# Altium schematic symbol library SerDes_Eval.SCHLIB: 29 symbols
Pins are listed as number, name and electrical type; pins without a type are passive.

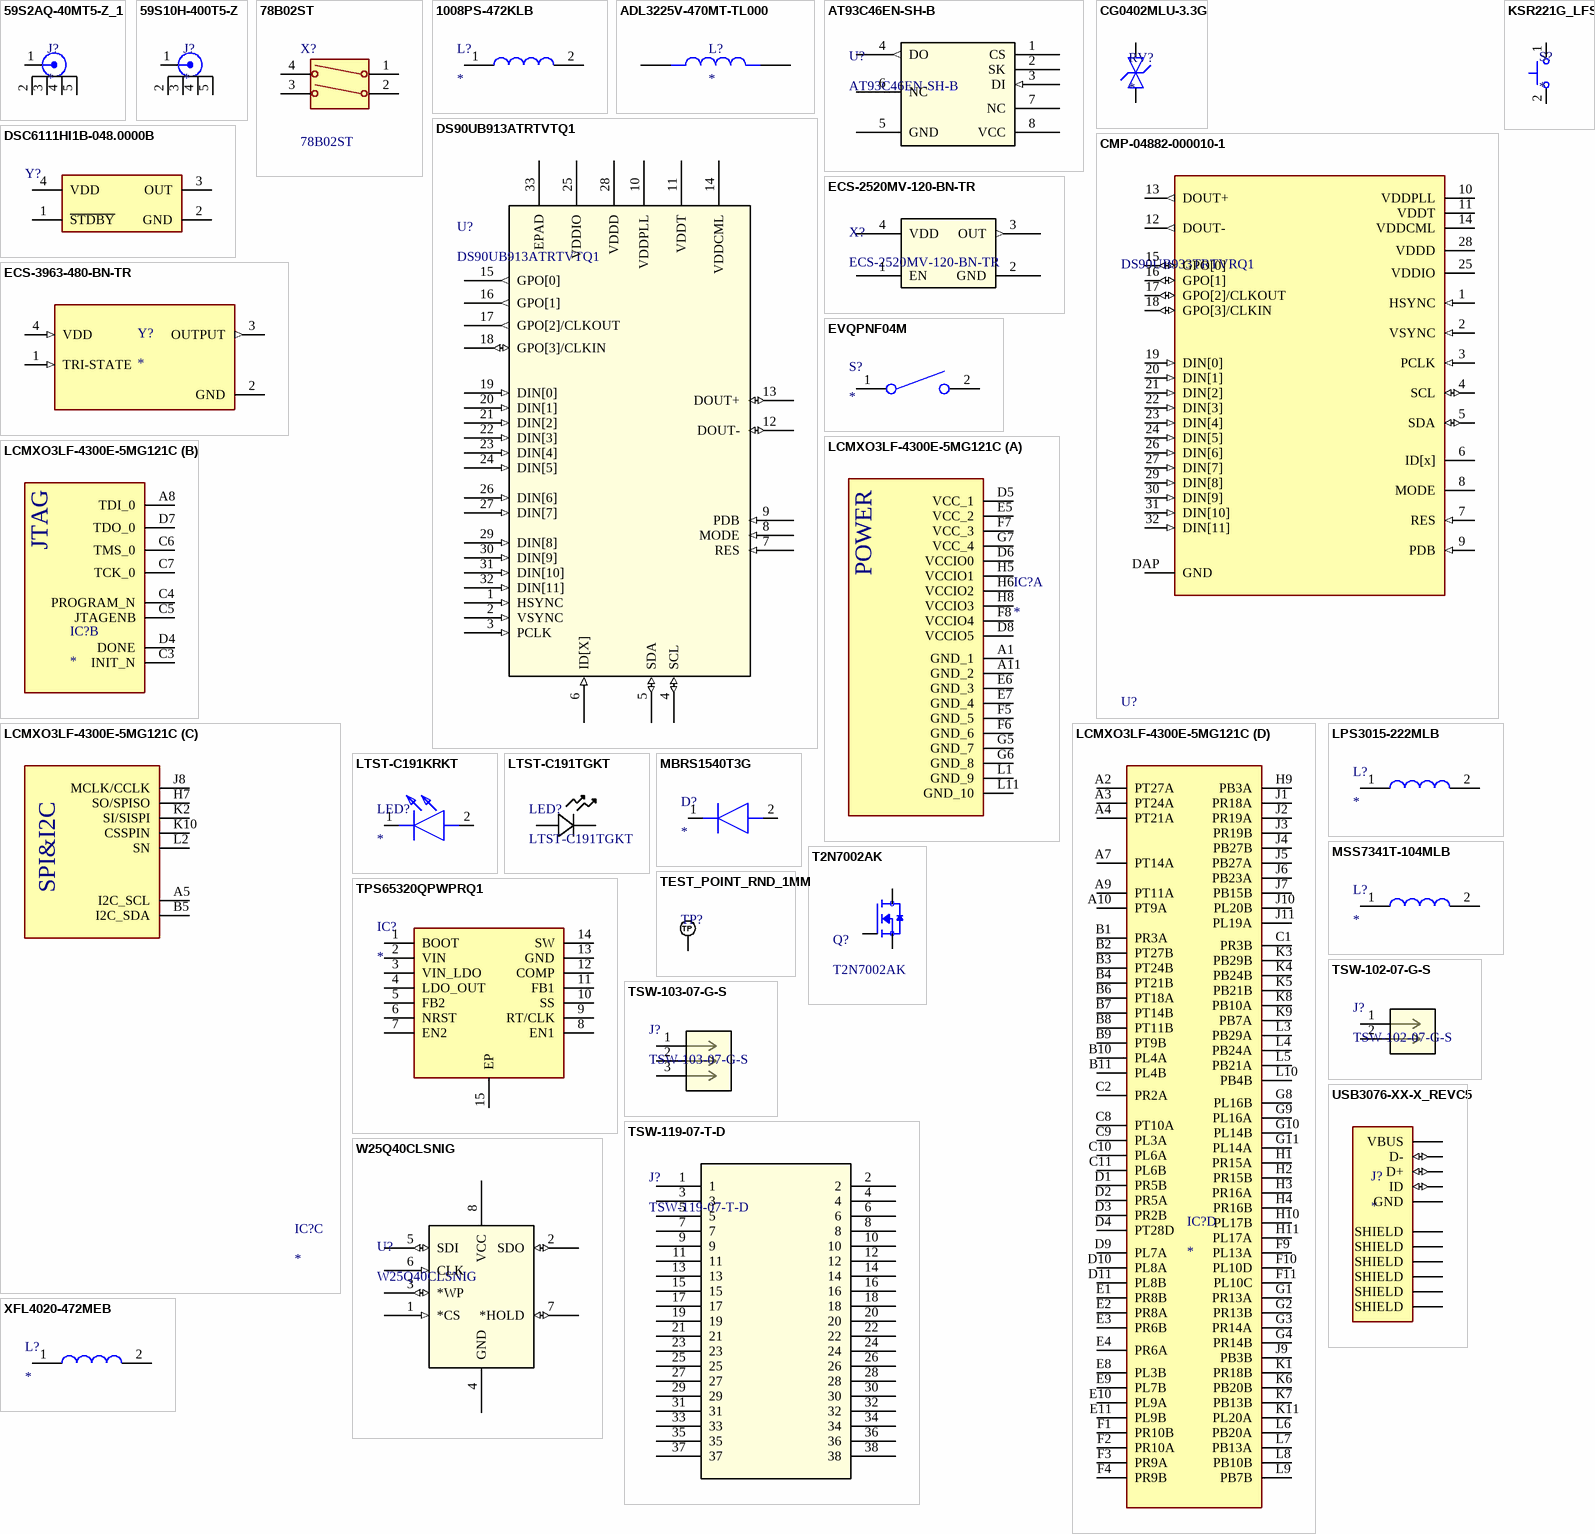
[diagram p0: symbols 59S2AQ-40MT5-Z_1 to XFL4020-472MEB]

## 59S2AQ-40MT5-Z_1
designator J?
RF Connectors / Coaxial Connectors Plug PC-Board SMD Right AngleZWatrBlue; MP: 59S2AQ-40MT5-Z_1; Package: None; Price: None; Value: *; Availability: Unavailable
footprint ROSENBERGER_59S2AQ-40MT5-Z_1
pins: 1, 2, 3, 4, 5

## 59S10H-400T5-Z
designator J?
Connector; Manufacturer_Name: Rosenberger; Manufacturer_Part_Number: 59S10H-400T5-Z; Datasheet Link: https://products.rosenberger.com/radio-frequency/connectors/190827/59s10h-400t5-z-straight-plug-pcb-w.-housing#; Height: 12.45mm; Mouser Part Number: 476-59S10H-400T5-Z; Mouser Price/Stock: https://www.mouser.co.uk/ProductDetail/Rosenberger/59S10H-400T5-Z?qs=ehM%252BESVsXgwk%252Bgn9X1DFpA%3D%3D
footprint 59S10H400T5Z
pins: 1, 2, 3, 4, 5

## 78B02ST
designator X?
PCB Slide Switch Single Pole Single Throw (SPST) 150 mA Slide; Manufacturer_Name: Grayhill; Geometry.Height: 7.49mm; Mouser Part Number: 706-78B02ST; Mouser Price/Stock: https://www.mouser.co.uk/ProductDetail/Grayhill/78B02ST?qs=ls7QRyWmRk63wsT9ZvgLUg%3D%3D; Manufacturer_Part_Number: 78B02ST; Datasheet Link: https://datasheet.datasheetarchive.com/originals/distributors/SFDatasheet-7/sf-000148477.pdf
footprint 78B02ST
pins: 1 COM_1, 2 NO_1, 3 COM_2, 4 NO_2

## 1008PS-472KLB
designator L?
Inductor; Manufacturer_Name: COILCRAFT; Manufacturer_Part_Number: 1008PS-472KLB; Datasheet Link: https://www.coilcraft.com/pdfs/1008ps.pdf; Mouser Part Number: 994-1008PS-472KLB; Mouser Price/Stock: https://www.mouser.co.uk/ProductDetail/Coilcraft/1008PS-472KLB?qs=zCSbvcPd3pZjtFGTYwqcAw%3D%3D
footprint 1008PS
pins: 1, 2

## ADL3225V-470MT-TL000
designator L?
MP: ADL3225V-470MT-TL000; MF: {'manufacturer': u'TDK'}; Value: *; Availability: Unavailable; Price: None; Package: None
footprint IND_ADL3225V-470MT-TL000
pins: 1, 2

## AT93C46EN-SH-B
designator U?
No Description Available; Manufacturer_Name: Microchip; Copyright: Copyright (C) 2025 Ultra Librarian. All rights reserved.; Manufacturer_Part_Number: AT93C46EN-SH-B; RefDes: RefDes; Type: Type
footprint 8S1_ATM
pins: 1 CS, 2 SK, 3 DI (in), 4 DO (out), 5 GND (power), 6 NC, 7 NC, 8 VCC (power)

## CG0402MLU-3.3G
designator RV?
Varistor; Manufacturer_Name: Bourns; Manufacturer_Part_Number: CG0402MLU-3.3G; Datasheet Link: https://www.bourns.com/docs/Product-Datasheets/MLU.pdf; Height: 0.41mm; Mouser Part Number: 652-CG0402MLU-3.3G; Mouser Price/Stock: https://www.mouser.co.uk/ProductDetail/Bourns/CG0402MLU-3.3G?qs=m8myXnDJXpWVM8EQWErxtQ%3D%3D; Arrow Part Number: CG0402MLU-3.3G; Arrow Price/Stock: https://www.arrow.com/en/products/cg0402mlu-3.3g/bourns?utm_currency=USD&region=nac
footprint VARC1005X41N
pins: A, K

## CMP-04882-000010-1
designator U?, comment DS90UB933TRTVRQ1
IC SERIALIZER FPD-LINK 32WQFN; Number of Inputs: 12; Number of Outputs: 2; RoHS Compliant: Yes; Min Operating Temperature: -40°C; Mount: Surface Mount; Packaging: Tape and Reel; Max Operating Temperature: 105°C
footprint FP-RTV0032A-IPC_A
footprint FP-RTV0032A-IPC_B
footprint FP-RTV0032A-IPC_C
footprint FP-RTV0032A-MFG
pins: 1 HSYNC (in), 2 VSYNC (in), 3 PCLK (in), 4 SCL (io), 5 SDA (io), 6 ID[x], 7 RES (in), 8 MODE, 9 PDB (in), 10 VDDPLL (power), 11 VDDT (power), 12 DOUT- (out), 13 DOUT+ (out), 14 VDDCML (power), 15 GPO[0] (io), 16 GPO[1] (io), 17 GPO[2]/CLKOUT (io), 18 GPO[3]/CLKIN (io), 19 DIN[0] (in), 20 DIN[1] (in), 21 DIN[2] (in), 22 DIN[3] (in), 23 DIN[4] (in), 24 DIN[5] (in), 25 VDDIO (power), 26 DIN[6] (in), 27 DIN[7] (in), 28 VDDD (power), 29 DIN[8] (in), 30 DIN[9] (in), 31 DIN[10] (in), 32 DIN[11] (in), DAP GND (power)

## DS90UB913ATRTVTQ1
designator U?
25- to 100-MHz, 10-bit & 12-bit FPD-Link III serializer 32-WQFN -40 to 105; Manufacturer_Name: Texas Instruments; Copyright: Copyright (C) 2025 Ultra Librarian. All rights reserved.; Manufacturer_Part_Number: DS90UB913ATRTVTQ1; RefDes: RefDes; Type: Type
footprint RTV32_3P1X3P1_TEX-L
pins: 1 HSYNC (in), 2 VSYNC (in), 3 PCLK (in), 4 SCL (io), 5 SDA (io), 6 ID[X] (in), 7 RES (in), 8 MODE (in), 9 PDB (in), 10 VDDPLL (power), 11 VDDT (power), 12 DOUT- (io), 13 DOUT+ (io), 14 VDDCML (power), 15 GPO[0] (out), 16 GPO[1] (out), 17 GPO[2]/CLKOUT (out), 18 GPO[3]/CLKIN (io), 19 DIN[0] (in), 20 DIN[1] (in), 21 DIN[2] (in), 22 DIN[3] (in), 23 DIN[4] (in), 24 DIN[5] (in), 25 VDDIO (power), 26 DIN[6] (in), 27 DIN[7] (in), 28 VDDD (power), 29 DIN[8] (in), 30 DIN[9] (in), 31 DIN[10] (in), 32 DIN[11] (in), 33 EPAD

## DSC6111HI1B-048.0000B
designator Y?
Crystal or Oscillator; Manufacturer_Name: Microchip; Manufacturer_Part_Number: DSC6111HI1B-048.0000B; Datasheet Link: https://ww1.microchip.com/downloads/aemDocuments/documents/TCG/ProductDocuments/DataSheets/DSC61xxB-Ultra-Small-Ultra-Low-Power-MEMS-Oscillator-DS20006155.pdf; Height: 0.89mm
footprint DSC6111HI1B0480000B
pins: 1 ~{STDBY}, 2 GND, 3 OUT, 4 VDD

## ECS-2520MV-120-BN-TR
designator X?
Description; Manufacturer_Name: ECS International; Copyright: Copyright (C) 2025 Ultra Librarian. All rights reserved.; Manufacturer_Part_Number: ECS-2520MV-120-BN-TR; RefDes: RefDes; Type: Type
footprint SMD4_ECS-2520MV_ECS
pins: 1 EN, 2 GND (power), 3 OUT (out), 4 VDD (power)

## ECS-3963-480-BN-TR
designator Y?
miniature SMD crystal controlled oscillators; MP: ECS-3963-480-BN-TR; Package: None; Price: None; Value: *; Availability: Unavailable
footprint OSC_ECS-3963-480-BN-TR
pins: 1 TRI-STATE (in), 2 GND (power), 3 OUTPUT (out), 4 VDD (in)

## EVQPNF04M
designator S?
Switch; Manufacturer_Name: Panasonic; Manufacturer_Part_Number: EVQPNF04M; Datasheet Link: https://industrial.panasonic.com/cdbs/www-data/pdf/ATK0000/ATK0000C376.pdf
footprint EVQ5PN05K
pins: 1 COM, 2 NO

## KSR221G_LFS
designator S?
Switch; Manufacturer_Name: C & K COMPONENTS; Manufacturer_Part_Number: KSR221G LFS; Datasheet Link: http://www.ckswitches.com/media/1466/ksr.pdf; Mouser Part Number: 611-KSR221G-LFS; Mouser Price/Stock: https://www.mouser.co.uk/ProductDetail/CK/KSR221G-LFS?qs=nrpkpS80q8EnsbmSijdd7Q%3D%3D; Arrow Part Number: KSR221G LFS; Arrow Price/Stock: https://www.arrow.com/en/products/ksr221glfs/ck?utm_currency=USD&region=europe
footprint KSR
pins: 1, 2

## LCMXO3LF-4300E-5MG121C
designator IC?
FPGA IC; Manufacturer_Name: Lattice Semiconductor; Manufacturer_Part_Number: LCMXO3LF-4300E-5MG121C; Datasheet Link: https://www.latticesemi.com/MachXO3; Height: 1mm; Mouser Part Number: 842-O3LF4300E5MG121C; Mouser Price/Stock: https://www.mouser.co.uk/ProductDetail/Lattice/LCMXO3LF-4300E-5MG121C?qs=Zwj7mHVHPHTjqjc5ga7IUA%3D%3D; Arrow Part Number: LCMXO3LF-4300E-5MG121C; Arrow Price/Stock: https://www.arrow.com/en/products/lcmxo3lf-4300e-5mg121c/lattice-semiconductor?region=nac
footprint CSFBGA-121_L6.0-W6.0-R11-C11-P0.50-TL
part A pins: A1 GND_1, A11 GND_2, D5 VCC_1, D6 VCCIO0, D8 VCCIO5, E5 VCC_2, E6 GND_3, E7 GND_4, F5 GND_5, F6 GND_6, F7 VCC_3, F8 VCCIO4, G5 GND_7, G6 GND_8, G7 VCC_4, H5 VCCIO1, H6 VCCIO2, H8 VCCIO3, L1 GND_9, L11 GND_10
part B pins: A8 TDI_0, C3 INIT_N, C4 PROGRAM_N, C5 JTAGENB, C6 TMS_0, C7 TCK_0, D4 DONE, D7 TDO_0
part C pins: A5 I2C_SCL, B5 I2C_SDA, H7 SO/SPISO, J8 MCLK/CCLK, K2 SI/SISPI, K10 CSSPIN, L2 SN
part D pins: A2 PT27A, A3 PT24A, A4 PT21A, A7 PT14A, A9 PT11A, A10 PT9A, B1 PR3A, B2 PT27B, B3 PT24B, B4 PT21B, B6 PT18A, B7 PT14B, B8 PT11B, B9 PT9B, B10 PL4A, B11 PL4B, C1 PR3B, C2 PR2A, C8 PT10A, C9 PL3A, C10 PL6A, C11 PL6B, D1 PR5B, D2 PR5A, D3 PR2B, D4 PT28D, D9 PL7A, D10 PL8A, D11 PL8B, E1 PR8B, E2 PR8A, E3 PR6B, E4 PR6A, E8 PL3B, E9 PL7B, E10 PL9A, E11 PL9B, F1 PR10B, F2 PR10A, F3 PR9A, F4 PR9B, F9 PL13A, F10 PL10D, F11 PL10C, G1 PR13A, G2 PR13B, G3 PR14A, G4 PR14B, G8 PL16B, G9 PL16A, G10 PL14B, G11 PL14A, H1 PR15A, H2 PR15B, H3 PR16A, H4 PR16B, H9 PB3A, H10 PL17B, H11 PL17A, J1 PR18A, J2 PR19A, J3 PR19B, J4 PB27B, J5 PB27A, J6 PB23A, J7 PB15B, J9 PB3B, J10 PL20B, J11 PL19A, K1 PR18B, K3 PB29B, K4 PB24B, K5 PB21B, K6 PB20B, K7 PB13B, K8 PB10A, K9 PB7A, K11 PL20A, L3 PB29A, L4 PB24A, L5 PB21A, L6 PB20A, L7 PB13A, L8 PB10B, L9 PB7B, L10 PB4B
part A text: POWER
part B text: JTAG
part C text: SPI&I2C

## LPS3015-222MLB
designator L?
Inductor; Manufacturer_Name: COILCRAFT; Manufacturer_Part_Number: LPS3015-222MLB; Datasheet Link: https://www.mouser.de/datasheet/2/597/lps3015-270734.pdf; Mouser Part Number: 994-LPS3015-222MLB; Mouser Price/Stock: https://www.mouser.co.uk/ProductDetail/Coilcraft/LPS3015-222MLB?qs=zCSbvcPd3pZ6eDikEPAG6g%3D%3D
footprint LPS3015
pins: 1, 2

## LTST-C191KRKT
designator LED?
LED; Manufacturer_Name: Lite-On; Manufacturer_Part_Number: LTST-C191KRKT; Datasheet Link: http://www.mouser.com/ds/2/239/S_110_LTST-C191KRKT-539838.pdf; Height: 0.55mm; Mouser Part Number: 859-LTST-C191KRKT; Mouser Price/Stock: https://www.mouser.co.uk/ProductDetail/LITEON/LTST-C191KRKT?qs=BAIUz4Y8PJBLfOhzue0q%252BA%3D%3D; Arrow Part Number: LTST-C191KRKT; Arrow Price/Stock: https://www.arrow.com/en/products/ltst-c191krkt/lite-on-technology?utm_currency=USD&region=nac
footprint LEDC1608X55N
pins: 1 K, 2 A

## LTST-C191TGKT
designator LED?
No Description Available; Manufacturer_Name: LITE-ON; Copyright: Copyright (C) 2025 Ultra Librarian. All rights reserved.; Manufacturer_Part_Number: LTST-C191TGKT
footprint LED_LTW-C193TS5_LTO
pins: 1, 2

## MBRS1540T3G
designator D?
Diode; Manufacturer_Name: onsemi; Manufacturer_Part_Number: MBRS1540T3G; Datasheet Link: https://www.onsemi.com/pub/Collateral/MBRS1540T3-D.PDF; Height: 2.56mm; Mouser Part Number: 863-MBRS1540T3G; Mouser Price/Stock: https://www.mouser.co.uk/ProductDetail/onsemi/MBRS1540T3G?qs=3JMERSakeboNHqMh%252BSYqYg%3D%3D; Arrow Part Number: MBRS1540T3G; Arrow Price/Stock: https://www.arrow.com/en/products/mbrs1540t3g/on-semiconductor?utm_currency=USD&region=europe
footprint DIOM5436X256N
pins: 1 K, 2 A

## MSS7341T-104MLB
designator L?
Inductor; Manufacturer_Name: COILCRAFT; Manufacturer_Part_Number: MSS7341T-104MLD; Datasheet Link: https://componentsearchengine.com/Datasheets/2/MSS7341T-104MLD.pdf; Height: 4.1mm; Mouser Part Number: 994-MSS7341T-104MLD; Mouser Price/Stock: https://www.mouser.co.uk/ProductDetail/Coilcraft/MSS7341T-104MLD?qs=zCSbvcPd3paCy6uSM7W%2FOg%3D%3D
footprint MSS7341T104MLB
pins: 1, 2

## T2N7002AK
designator Q?
N-ch MOSFET, 60 V, 0.2 A, 3.9 Î©@10V, SOT-23(SOT23); Manufacturer_Name: Toshiba Electronic Devices & Storage Corp.; Copyright: Copyright (C) 2025 Ultra Librarian. All rights reserved.; Manufacturer_Part_Number: T2N7002AK; RefDes: RefDes; Type: Type
footprint SOT-23_TOS
pins: 1 G, 2 S, 3 D

## TEST_POINT_RND_1MM
designator TP?, comment TP_NOBOM  (value not drawn)  (no BOM)
Test Point Round 1mm (NO BOM)
footprint PAD_RND_1MM
pins: 1 TP

## TPS65320QPWPRQ1
designator IC?
Integrated Circuit; Manufacturer_Name: Texas Instruments; Manufacturer_Part_Number: TPS65320QPWPRQ1; Datasheet Link: https://www.ti.com/general/docs/suppproductinfo.tsp?distId=10&gotoUrl=https%3A%2F%2Fwww.ti.com%2Flit%2Fgpn%2Ftps65320-q1; Height: 1.2mm; Mouser Part Number: 595-TPS65320QPWPRQ1; Mouser Price/Stock: https://www.mouser.co.uk/ProductDetail/Texas-Instruments/TPS65320QPWPRQ1?qs=FBI%252BX3tnPf3UK2GiH7QeCQ%3D%3D; Arrow Part Number: TPS65320QPWPRQ1; Arrow Price/Stock: https://www.arrow.com/en/products/tps65320qpwprq1/texas-instruments
footprint SOP65P640X120-15N
pins: 1 BOOT, 2 VIN, 3 VIN_LDO, 4 LDO_OUT, 5 FB2, 6 NRST, 7 EN2, 8 EN1, 9 RT/CLK, 10 SS, 11 FB1, 12 COMP, 13 GND, 14 SW, 15 EP

## TSW-102-07-G-S
designator J?
Description; Manufacturer_Name: Samtec Inc; Copyright: Copyright (C) 2025 Ultra Librarian. All rights reserved.; Manufacturer_Part_Number: TSW-102-07-G-S; RefDes: RefDes; Type: Type
footprint CON2_1X2_TU_TSW
pins: 1, 2

## TSW-103-07-G-S
designator J?
Description; Manufacturer_Name: Samtec Inc; Copyright: Copyright (C) 2025 Ultra Librarian. All rights reserved.; Manufacturer_Part_Number: TSW-103-07-G-S; RefDes: RefDes; Type: Type
footprint CON3_1X3_TU_TSW
pins: 1, 2, 3

## TSW-119-07-T-D
designator J?
Description; Manufacturer_Name: Samtec Inc; Copyright: Copyright (C) 2025 Ultra Librarian. All rights reserved.; Manufacturer_Part_Number: TSW-119-07-T-D; RefDes: RefDes; Type: Type
footprint TSW-119-07-G-D_SAI
pins: 1, 2, 3, 4, 5, 6, 7, 8, 9, 10, 11, 12, 13, 14, 15, 16, 17, 18, 19, 20, 21, 22, 23, 24, 25, 26, 27, 28, 29, 30, 31, 32, 33, 34, 35, 36, 37, 38

## USB3076-XX-X_REVC5
designator J?
USB - micro B USB 2.0 Receptacle Connector 5 Position Surface Mount, Right Angle; Through Hole, 2.35mm profile, 5 Pins, Horizontal, Bottom mount; MP: USB3076-30-A; MF: Global Connector Technology; SnapEDA_Link: https://www.snapeda.com/parts/USB3076-30-A/Global+Connector+Technology/view-part/?ref=snap; Package: None; Check_prices: https://www.snapeda.com/parts/USB3076-30-A/Global+Connector+Technology/view-part/?ref=eda; Purchase-URL: https://pricing.snapeda.com/search/part/USB3076-30-A/?ref=eda; Price: None; Value: *; Availability: In Stock
footprint GCT_USB3076-XX-X_REVC5
pins: 1 VBUS (power), 2 D- (io), 3 D+ (io), 4 ID (io), 5 GND (power), 6 SHIELD (power), 7 SHIELD (power), 8 SHIELD (power), 9 SHIELD (power), 10 SHIELD (power), 11 SHIELD (power)

## W25Q40CLSNIG
designator U?
No Description Available; Manufacturer_Name: Winbond; Copyright: Copyright (C) 2026 Ultra Librarian. All rights reserved.; Manufacturer_Part_Number: W25Q40CLSNIG; RefDes: RefDes; Type: Type
footprint WIN_SN-8_WIN
pins: 1 *CS (in), 2 SDO (io), 3 *WP (io), 4 GND (power), 5 SDI (io), 6 CLK (in), 7 *HOLD (io), 8 VCC (power)

## XFL4020-472MEB
designator L?
Inductor; Manufacturer_Name: COILCRAFT; Manufacturer_Part_Number: XFL4020-472MEB; Datasheet Link: https://componentsearchengine.com/Datasheets/1/XFL4020-472MEB.pdf; Height: 2.1mm; Mouser Part Number: 994-XFL4020-472MEB; Mouser Price/Stock: https://www.mouser.co.uk/ProductDetail/Coilcraft/XFL4020-472MEB?qs=VJjuEbE9QBPFBMgGchYEoQ%3D%3D
footprint XFL4020472MEB
pins: 1, 2